# Altium schematic symbol library OltestLib_RC_chul.SchLib: 60 symbols
Pins are listed as number, name and electrical type; pins without a type are passive.

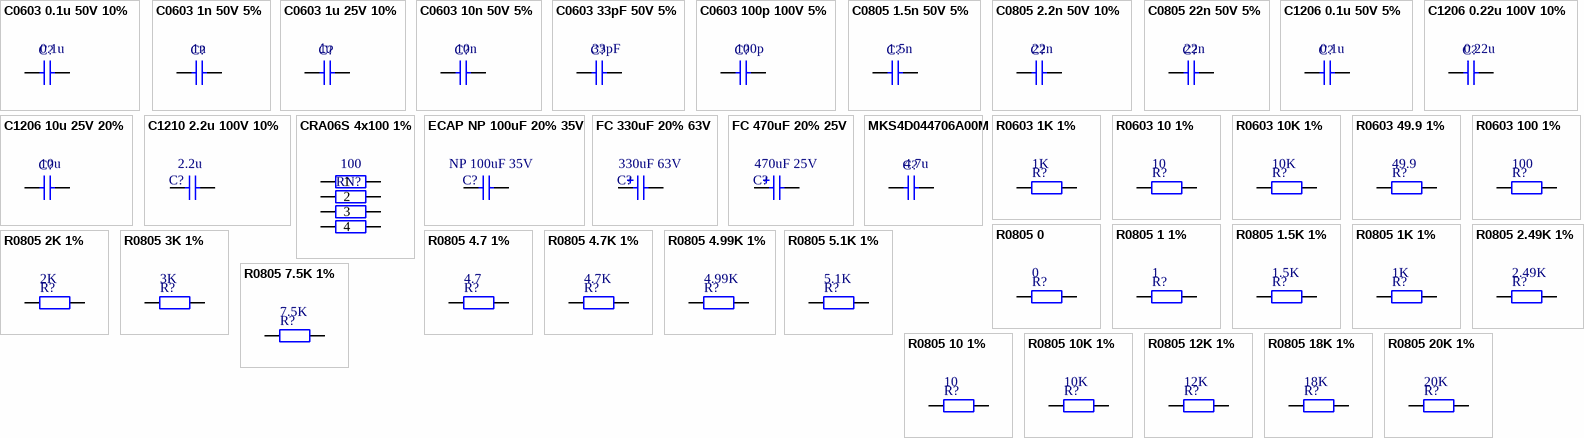
[diagram p0: symbols C0603 0.1u 50V 10% to R0805 20K 1%]

## C0603 0.1u 50V 10%
designator C?, comment 0.1u
SMD 0603 MURATA 50V 10% X7R; PartNumber: GRM188R71H104K; Manufacturer: MURATA; Value: 0.1u
footprint SMD_C_0603
pins: 1, 2

## C0603 1n 50V 5%
designator C?, comment 1n
SMD 0603 MURATA 50V 5% NP0; PartNumber: GRM1885C1H102JA01; Manufacturer: MURATA; Value: 1n
footprint SMD_C_0603
pins: 1, 2

## C0603 1u 25V 10%
designator C?, comment 1u
SMD 0603 MURATA 25V 10% X7R; PartNumber: GRM188R71E105KA12; Manufacturer: MURATA; Value: 1u
footprint SMD_C_0603
pins: 1, 2

## C0603 10n 50V 5%
designator C?, comment 10n
SMD 0603 MURATA 50V 5% NP0; PartNumber: GRM1885C1H103JA01#; Manufacturer: MURATA; Value: 10n
footprint SMD_C_0603
pins: 1, 2

## C0603 33pF 50V 5%
designator C?, comment 33pF
SMD 0603 MURATA 50V 5% NP0; PartNumber: GRM1885C1H330JA01; Manufacturer: MURATA; Value: 33pF
footprint SMD_C_0603
pins: 1, 2

## C0603 100p 100V 5%
designator C?, comment 100p
SMD 0603 MURATA 100V 5% NP0; PartNumber: GRM1885C2A101JA01; Manufacturer: MURATA; Value: 100p
footprint SMD_C_0603
pins: 1, 2

## C0805 1.5n 50V 5%
designator C?, comment 1.5n
SMD 0805 MURATA 50V 5% NP0; PartNumber: GRM2165C1H152JA01; Manufacturer: MURATA; Value: 1.5n
footprint SMD_C_0805
pins: 1, 2

## C0805 2.2n 50V 10%
designator C?, comment 22n
SMD 0805 MURATA 50V 10% X7R; PartNumber: GRM216R71H222K; Manufacturer: MURATA; Value: 22n
footprint SMD_C_0805
pins: 1, 2

## C0805 22n 50V 5%
designator C?, comment 22n
SMD 0805 MURATA 50V 5% NP0; PartNumber: GRM21B5C1H223JA01; Manufacturer: MURATA; Value: 22n
footprint SMD_C_0805
pins: 1, 2

## C1206 0.1u 50V 5%
designator C?, comment 0.1u
SMD 1206 MURATA 50V 5% NP0; PartNumber: GRM31C5C1H104JA01L; Manufacturer: MURATA; Value: 0.1u
footprint SMD_C_1206
pins: 1, 2

## C1206 0.22u 100V 10%
designator C?, comment 0.22u
SMD 1206 MURATA 100V 10% X7R; PartNumber: GRM31MR72A224KA01; Manufacturer: MURATA; Value: 0.22u
footprint SMD_C_1206
pins: 1, 2

## C1206 10u 25V 20%
designator C?, comment 10u
SMD 1206 MURATA 25V 20% X5R; PartNumber: GRM31MR61E106M; Manufacturer: MURATA; Value: 10u
footprint SMD_C_1206
pins: 1, 2

## C1210 2.2u 100V 10%
designator C?, comment 2.2u
SMD 1210 MURATA 100V 10% X7R; PartNumber: GRM32ER72A225KA35L; Manufacturer: MURATA; Value: 2.2u
footprint SMD_C_1210 (Chip Capacitor, 2-Leads, Body 3,20x2,50mm, IPC Low Density)
pins: 1, 2

## CRA06S 4x100 1%
designator RN?, comment 100
SMD RESISTOR ARRAY VISHAY 0.063W 50V 1% 100ppm; PartNumber: CRA06S083100RF; Manufacturer: VISHAY; Value: 100
footprint CRA06S (Chip Array, ConvexS, 8-Leads, Pitch 0,80mm,  Body 3,20x1,50mm,  IPC Low Density)
pins: 1, 2, 3, 4, 5, 6, 7, 8

## ECAP NP 100uF 20% 35V
designator C?, comment NP 100uF 35V
Aluminum Electrolytic Radial D10 L16 LS5 25V 20%; PartNumber: ECA1VEN101; Manufacturer: Panasonic; Value: NP 100uF 35V
footprint El_NP_D10_H16_LS5.0
pins: 1, 2

## FC 330uF 20% 63V
designator C?, comment 330uF 63V
Aluminum Electrolytic Radial D12.5 L20 LS5 63V 20%; PartNumber: EEUFC1EJ331L; Manufacturer: Panasonic; Value: 330uF 63V
footprint El_D12.5_H20_LS5.0
pins: 1, 2

## FC 470uF 20% 25V
designator C?, comment 470uF 25V
Aluminum Electrolytic Radial D10 L16 LS5 25V 20%; PartNumber: EEUFC1EJ331L; Manufacturer: Panasonic; Value: 470uF 25V
footprint El_D10_H16_LS5.0
pins: 1, 2

## MKS4D044706A00M
designator C?, comment 4.7u
MKS4 WIMA 100V 20% Metallized Polyester Capacitor; PartNumber: MKS4D044706A00M; Manufacturer: WIMA; Value: 4.7u
footprint MKS4D044706A00
pins: 1, 2

## R0603 1K 1%
designator R?, comment 1K
SMD 0603 VISHAY 0.1W 75V 1% 100ppm; PartNumber: CRCW06031K00FK; Manufacturer: VISHAY; Value: 1K
footprint SMD_R_0603
pins: 1, 2

## R0603 10 1%
designator R?, comment 10
SMD 0603 VISHAY 0.1W 75V 1% 100ppm; PartNumber: CRCW060310R0FK; Manufacturer: VISHAY; Value: 10
footprint SMD_R_0603
pins: 1, 2

## R0603 10K 1%
designator R?, comment 10K
SMD 0603 VISHAY 0.1W 75V 1% 100ppm; PartNumber: CRCW060310K0FK; Manufacturer: VISHAY; Value: 10K
footprint SMD_R_0603
pins: 1, 2

## R0603 49.9 1%
designator R?, comment 49.9
SMD 0603 VISHAY 0.1W 75V 1% 100ppm; PartNumber: CRCW060349R9FK; Manufacturer: VISHAY; Value: 49.9
footprint SMD_R_0603
pins: 1, 2

## R0603 100 1%
designator R?, comment 100
SMD 0603 VISHAY 0.1W 75V 1% 100ppm; PartNumber: CRCW0603100RFK; Manufacturer: VISHAY; Value: 100
footprint SMD_R_0603
pins: 1, 2

## R0805 0
designator R?, comment 0
SMD 0805 VISHAY; PartNumber: CRCW08050000ZC; Manufacturer: VISHAY; Value: 0
footprint SMD_R_0805
pins: 1, 2

## R0805 1 1%
designator R?, comment 1
SMD 0805 VISHAY 0.125W 150V 1% 100ppm; PartNumber: CRCW08051R00FK; Manufacturer: VISHAY; Value: 1
footprint SMD_R_0805
pins: 1, 2

## R0805 1.5K 1%
designator R?, comment 1.5K
SMD 0805 VISHAY 0.125W 150V 1% 100ppm; PartNumber: CRCW08051K50FK; Manufacturer: VISHAY; Value: 1.5K
footprint SMD_R_0805
pins: 1, 2

## R0805 1K 1%
designator R?, comment 1K
SMD 0805 VISHAY 0.125W 150V 1% 100ppm; PartNumber: CRCW080510K0FK; Manufacturer: VISHAY; Value: 1K
footprint SMD_R_0805
pins: 1, 2

## R0805 2.49K 1%
designator R?, comment 2.49K
SMD 0805 VISHAY 0.125W 150V 1% 100ppm; PartNumber: CRCW08052K49FK; Manufacturer: VISHAY; Value: 2.49K
footprint SMD_R_0805
pins: 1, 2

## R0805 2K 1%
designator R?, comment 2K
SMD 0805 VISHAY 0.125W 150V 1% 100ppm; PartNumber: CRCW08052K00FK; Manufacturer: VISHAY; Value: 2K
footprint SMD_R_0805
pins: 1, 2

## R0805 3K 1%
designator R?, comment 3K
SMD 0805 VISHAY 0.125W 150V 1% 100ppm; PartNumber: CRCW08053K00FK; Manufacturer: VISHAY; Value: 3K
footprint SMD_R_0805
pins: 1, 2

## R0805 4.7 1%
designator R?, comment 4.7
SMD 0805 VISHAY 0.125W 150V 1% 100ppm; PartNumber: CRCW08054R70FK; Manufacturer: VISHAY; Value: 4.7
footprint SMD_R_0805
pins: 1, 2

## R0805 4.7K 1%
designator R?, comment 4.7K
SMD 0805 VISHAY 0.125W 150V 1% 100ppm; PartNumber: CRCW08054K70FK; Manufacturer: VISHAY; Value: 4.7K
footprint SMD_R_0805
pins: 1, 2

## R0805 4.99K 1%
designator R?, comment 4.99K
SMD 0805 VISHAY 0.125W 150V 1% 100ppm; PartNumber: CRCW08054K99FK; Manufacturer: VISHAY; Value: 4.99K
footprint SMD_R_0805
pins: 1, 2

## R0805 5.1K 1%
designator R?, comment 5.1K
SMD 0805 VISHAY 0.125W 150V 1% 100ppm; PartNumber: CRCW08055K10FK; Manufacturer: VISHAY; Value: 5.1K
footprint SMD_R_0805
pins: 1, 2

## R0805 7.5K 1%
designator R?, comment 7.5K
SMD 0805 VISHAY 0.125W 150V 1% 100ppm; PartNumber: CRCW08057K50FK; Manufacturer: VISHAY; Value: 7.5K
footprint SMD_R_0805
pins: 1, 2

## R0805 10 1%
designator R?, comment 10
SMD 0805 VISHAY 0.125W 150V 1% 100ppm; PartNumber: CRCW080510R0FK; Manufacturer: VISHAY; Value: 10
footprint SMD_R_0805
pins: 1, 2

## R0805 10K 1%
designator R?, comment 10K
SMD 0805 VISHAY 0.125W 150V 1% 100ppm; PartNumber: CRCW080510K0FK; Manufacturer: VISHAY; Value: 10K
footprint SMD_R_0805
pins: 1, 2

## R0805 12K 1%
designator R?, comment 12K
SMD 0805 VISHAY 0.125W 150V 1% 100ppm; PartNumber: CRCW080512K0FK; Manufacturer: VISHAY; Value: 12K
footprint SMD_R_0805
pins: 1, 2

## R0805 18K 1%
designator R?, comment 18K
SMD 0805 VISHAY 0.125W 150V 1% 100ppm; PartNumber: CRCW080518K0FK; Manufacturer: VISHAY; Value: 18K
footprint SMD_R_0805
pins: 1, 2

## R0805 20K 1%
designator R?, comment 20K
SMD 0805 VISHAY 0.125W 150V 1% 100ppm; PartNumber: CRCW080520K0FK; Manufacturer: VISHAY; Value: 20K
footprint SMD_R_0805
pins: 1, 2

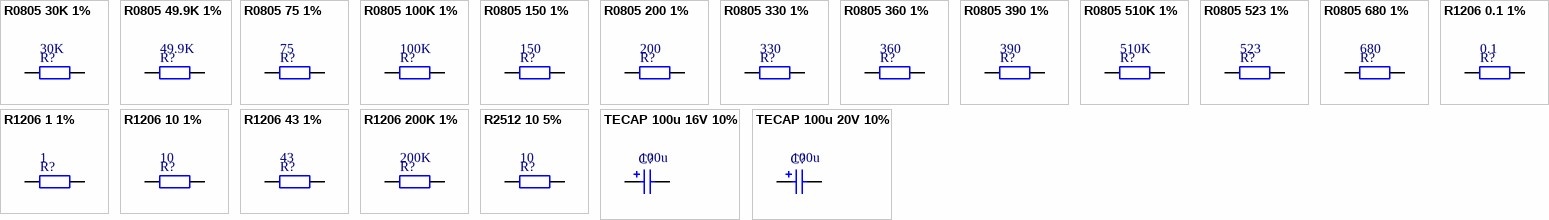
[diagram p1: symbols R0805 30K 1% to TECAP 100u 20V 10%]

## R0805 30K 1%
designator R?, comment 30K
SMD 0805 VISHAY 0.125W 150V 1% 100ppm; PartNumber: CRCW080530K0FK; Manufacturer: VISHAY; Value: 30K
footprint SMD_R_0805
pins: 1, 2

## R0805 49.9K 1%
designator R?, comment 49.9K
SMD 0805 VISHAY 0.125W 150V 1% 100ppm; PartNumber: CRCW080549K9FK; Manufacturer: VISHAY; Value: 49.9K
footprint SMD_R_0805
pins: 1, 2

## R0805 75 1%
designator R?, comment 75
SMD 0805 VISHAY 0.125W 150V 1% 100ppm; PartNumber: CRCW080575R0FK; Manufacturer: VISHAY; Value: 75
footprint SMD_R_0805
pins: 1, 2

## R0805 100K 1%
designator R?, comment 100K
SMD 0805 VISHAY 0.125W 150V 1% 100ppm; PartNumber: CRCW0805100KFK; Manufacturer: VISHAY; Value: 100K
footprint SMD_R_0805
pins: 1, 2

## R0805 150 1%
designator R?, comment 150
SMD 0805 VISHAY 0.125W 150V 1% 100ppm; PartNumber: CRCW0805150RFK; Manufacturer: VISHAY; Value: 150
footprint SMD_R_0805
pins: 1, 2

## R0805 200 1%
designator R?, comment 200
SMD 0805 VISHAY 0.125W 150V 1% 100ppm; PartNumber: CRCW0805200RFK; Manufacturer: VISHAY; Value: 200
footprint SMD_R_0805
pins: 1, 2

## R0805 330 1%
designator R?, comment 330
SMD 0805 VISHAY 0.125W 150V 1% 100ppm; PartNumber: CRCW0805330RFK; Manufacturer: VISHAY; Value: 330
footprint SMD_R_0805
pins: 1, 2

## R0805 360 1%
designator R?, comment 360
SMD 0805 VISHAY 0.125W 150V 1% 100ppm; PartNumber: CRCW0805360RFK; Manufacturer: VISHAY; Value: 360
footprint SMD_R_0805
pins: 1, 2

## R0805 390 1%
designator R?, comment 390
SMD 0805 VISHAY 0.125W 150V 1% 100ppm; PartNumber: CRCW0805390RFK; Manufacturer: VISHAY; Value: 390
footprint SMD_R_0805
pins: 1, 2

## R0805 510K 1%
designator R?, comment 510K
SMD 0805 VISHAY 0.125W 150V 1% 100ppm; PartNumber: CRCW0805510KFK; Manufacturer: VISHAY; Value: 510K
footprint SMD_R_0805
pins: 1, 2

## R0805 523 1%
designator R?, comment 523
SMD 0805 VISHAY 0.125W 150V 1% 100ppm; PartNumber: CRCW0805523RFK; Manufacturer: VISHAY; Value: 523
footprint SMD_R_0805
pins: 1, 2

## R0805 680 1%
designator R?, comment 680
SMD 0805 VISHAY 0.125W 150V 1% 100ppm; PartNumber: CRCW0805680RFK; Manufacturer: VISHAY; Value: 680
footprint SMD_R_0805
pins: 1, 2

## R1206 0.1 1%
designator R?, comment 0.1
SMD 1206 Viking Tech 0.25W 200V 1% 100ppm; PartNumber: RS-06FL7-0R1; Manufacturer: Viking Tech; Value: 0.1
footprint SMD_R_1206
pins: 1, 2

## R1206 1 1%
designator R?, comment 1
SMD 1206 VISHAY 0.25W 200V 1% 100ppm; PartNumber: CRCW12061R00FK; Manufacturer: VISHAY; Value: 1
footprint SMD_R_1206
pins: 1, 2

## R1206 10 1%
designator R?, comment 10
SMD 1206 VISHAY 0.25W 200V 1% 100ppm; PartNumber: CRCW120610R0FK; Manufacturer: VISHAY; Value: 10
footprint SMD_R_1206
pins: 1, 2

## R1206 43 1%
designator R?, comment 43
SMD 1206 VISHAY 0.25W 200V 1% 100ppm; PartNumber: CRCW120643R0FK; Manufacturer: VISHAY; Value: 43
footprint SMD_R_1206
pins: 1, 2

## R1206 200K 1%
designator R?, comment 200K
SMD 1206 VISHAY 0.25W 200V 1% 100ppm; PartNumber: CRCW1206200KFK; Manufacturer: VISHAY; Value: 200K
footprint SMD_R_1206
pins: 1, 2

## R2512 10 5%
designator R?, comment 10
SMD 2512 VISHAY 1W 500V 5% 200ppm; PartNumber: CRCW12061R00FK; Manufacturer: VISHAY; Value: 10
footprint SMD_R_2512
pins: 1, 2

## TECAP 100u 16V 10%
designator C?, comment 100u
SMD SIZE C TANTALUM AVX 16V 10%; PartNumber: TAJC107K016RNJ; Manufacturer: AVX; Value: 100u
footprint TAJC (Molded Capacitor, 2-Leads, Body 6,00x3,25mm, IPC Low Density)
pins: 1, 2

## TECAP 100u 20V 10%
designator C?, comment 100u
SMD SIZE D TANTALUM AVX 20V 10%; PartNumber: TAJD107K020RNJ; Manufacturer: AVX; Value: 100u
footprint TAJD (Molded Capacitor, 2-Leads, Body 7,30x4,35mm, IPC Medium Density)
pins: 1, 2